# Altium footprint library RES1206.PcbLib: 1 footprints
Each footprint in its own frame and in the unit in brackets; x right, y up, seen from the top. Pads: shape width x height; smd on the part's side, far side on the other; paste and mask are expansions set on the pad; w line width, h text height; cw(c..) or ccw(c..) is an arc to the next point about the centre after c.
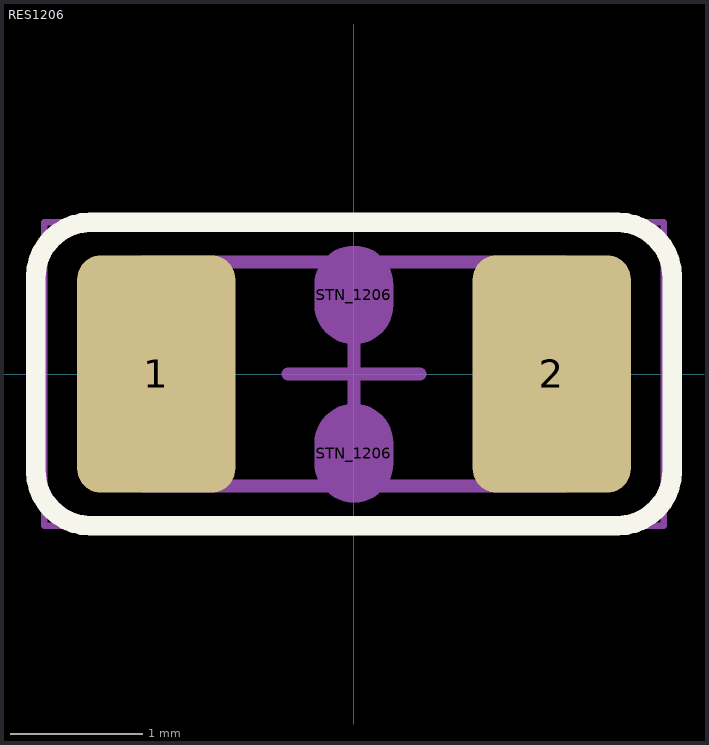
[diagram p0: the footprint, top view; thin cyan lines are the x and y axes]

## RES1206 [mm] "Chip Resistor, 2-Leads, Body 3/20x1/60mm, IPC Medium Density DESIGNER:ABBAS BASEREH"
height 0.94
pads (4):
  rrect30% 1.2x1.8 smd: 1(-1.5,0) 2(1.5,0)
  oval 0.6x0.75 on Mech2 mask+0: STN_1206(0,-0.6) STN_1206(0,0.6)
Top Overlay:
  lines w0.15: -2.413,-0.737 ccw(c-2,-0.737) -2,-1.15 2,-1.15 ccw(c2,-0.737) 2.413,-0.737 2.413,0.737 ccw(c2,0.737) 2,1.15 -2,1.15 ccw(c-2,0.737) -2.413,0.737 -2.413,-0.737
Mechanical 13:
  lines w0.1: -1.6,-0.85 1.6,-0.85 1.6,0.85 -1.6,0.85 -1.6,-0.85
Mechanical 15:
  lines w0.05: -2.35,-1.15 2.35,-1.15 2.35,1.15 -2.35,1.15 -2.35,-1.15
  lines w0.1: -0.5,0 0.5,0 ; 0,-0.5 0,0.5
3D body "Resistor_1206_Text.step": height 0.62, standoff 0.01, extent -1.6,-0.8 1.6,0.8